# Altium schematic symbol library NHD-0108HZ-FSW-GBW.SchLib: 1 symbol
Pins are listed as number, name and electrical type; pins without a type are passive.

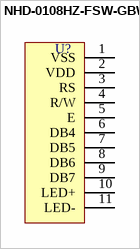
[diagram p0: symbol NHD-0108HZ-FSW-GBW]

## NHD-0108HZ-FSW-GBW
designator U?
pins: 1 VSS, 2 VDD, 3 RS, 4 R/W, 5 E, 6 DB4, 7 DB5, 8 DB6, 9 DB7, 10 LED+, 11 LED-